# Altium integrated library Connectors - Barrel.IntLib: 4 symbols
Pins are listed as number, name and electrical type; pins without a type are passive.

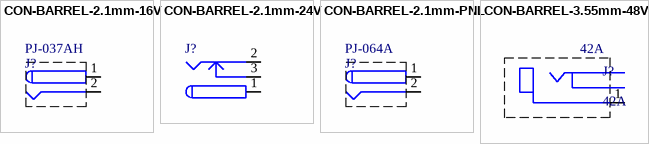
[diagram p0: symbols CON-BARREL-2.1mm-16V to CON-BARREL-3.55mm-48V]

## CON-BARREL-2.1mm-16V
designator J?, comment PJ-037AH
16V,  4A Maximum, Barrel Jack, 2.1mm I.D. 5.5mm O.D., No switch; Manufacturer: CUI Inc; Mates with (Wire housing): 2.1mm ID, 5.5mm OD Barrel connectors; Connector Body Material: Thermoplastic; Plug Diameter: 2.1mm ID, 5.5mm OD; Shielding: Unshielded; ComponentLink1Description: Datasheet; ComponentLink1URL: \\canopus\EDA\Datasheets\Interconnects\Barrel\pj-037ah.pdf; Mates with (PCB): N/A; Mounting Type: Right Angle; PackageDescription: 2.1mm inner diameter, 5.5mm outer diameter barrel connector; Pitch: N/A; Rows: -; Package Reference: 2.1mm Barrel Jack; Supplier 1: Digi-Key; Supplier Part Number 1: CP-037AH-ND; Supplier 2: Mouser; Supplier Part Number 2: 490-PJ-037AH; Contact Material: Copper; Contact Plating: Nickel; Gender: Jack; Internal Switch: No; No. of Conductors: N/A; Pins: 1; Signal Lines: -; Termination: PCB; Part Number: PJ-037AH
footprint 2.1mmBarrel-LC (2.1mm inner diameter, 5.5mm outer diameter barrel connector, Low current)
3D model pj-037ah (PCB3D Model)
pins: 1 (power), 2 (power)

## CON-BARREL-2.1mm-24V
designator J?, comment PJ-002AH  (value not drawn)
24V, 4A Max, Low Voltage Power Supply Connector; Manufacturer: CUI Inc; Mates with (Wire housing): 2.1mm I.D. x 5.5mm O.D. 9mm length Barrel plugs; Connector Body Material: Thermoplastic; Gender: Jack; Internal Switch: No; Plug Diameter: 2.1mm ID, 5.5mm OD; Shielding: Unshielded; ComponentLink1Description: Datasheet; ComponentLink1URL: \\canopus\EDA\Datasheets\Interconnects\Barrel\pj-002ah.pdf; Mates with (PCB): N/A; Mounting Type: Through Hole, Right Angle; PackageDescription: 2.1mm inner diameter, 5.5mm outer diameter barrel connector, High Current 3 pad.; Package Reference: 2.1mm-barrel-HC; Part Number: PJ-002AH; Pitch: -; Rows: -; Supplier 1: Newark; Supplier Part Number 1: 41Y7845; Supplier 2: Digi-Key; Supplier Part Number 2: CP-002AH-ND; Supplier 3: Mouser; Supplier Part Number 3: 490-PJ-002AH; Contact Material: Copper; Contact Plating: Nickel; No. of Conductors: N/A; Pins: 1; Signal Lines: -; Termination: PCB
footprint 2.1mm-barrel-HC (2.1mm inner diameter, 5.5mm outer diameter barrel connector, High Current 3 pad.)
signal-integrity model Connector
pins: 1 (power), 2 (power), 3 (power)

## CON-BARREL-2.1mm-PNL
designator J?, comment PJ-064A
24V,  5A Maximum, Barrel Jack, 2.1mm I.D. 5.5mm O.D., No switch; Manufacturer: CUI Inc; Mates with (Wire housing): 2.1mm ID, 5.5mm OD Barrel connectors; Connector Body Material: Thermoplastic; Plug Diameter: 2.1mm ID, 5.5mm OD; Shielding: Unshielded; ComponentLink1Description: Datasheet; ComponentLink1URL: \\canopus\EDA\Datasheets\Interconnects\Barrel\pj-064x.pdf; Mates with (PCB): N/A; Mounting Type: Panel; PackageDescription: 2.1mm inner diameter, 5.5mm outer diameter barrel connector, Panel Mount; Pitch: N/A; Rows: -; Package Reference: 2.1mm Barrel Jack; Supplier 1: Digi-Key; Supplier Part Number 1: CP-064A-ND; Supplier 2: Mouser; Supplier Part Number 2: 490-PJ-064A; Part Number: PJ-064A; Contact Material: Copper; Contact Plating: Nickel; Gender: Jack; Internal Switch: No; No. of Conductors: N/A; Pins: 1; Signal Lines: -; Termination: PCB
footprint 2xPADS_300mil (Pads for panel mount low voltage DC jack, 300mil x 200 mil)
3D model pj-037ah (PCB3D Model)
pins: 1 (power), 2 (power)

## CON-BARREL-3.55mm-48V
designator J?, comment 42A
48V, 0.25A, Barrel Jack, 3.55mm, 2 contacts, panel mount; Manufacturer: Switchcraft Inc.; Connector Body Material: Plastic; Signal Lines: Mono; No. of Conductors: 2; Internal Switch: Single Switch; Shielding: Unshielded; Mates with (Wire housing): 3.55mm (0.14", Tini Plug); Pitch: NA; Mounting Type: Panel; PackageDescription: 3.55mm (0.14", Tini Plug) Audio jack (Mono); Package Reference: 3.55mm (0.14", Tini Plug); Pins: 3; Gender: Jack; Plug Diameter: 3.55mm; Termination: Solder Eyelet(s); Contact Material: Brass; Contact Plating: Tin; Supplier 1: Allied; Supplier Part Number 1: 70214526; Supplier 2: Mouser; Supplier Part Number 2: 502-42A; Supplier 3: Digi-Key; Supplier Part Number 3: SC1816-ND; Mates with (PCB): N/A; Rows: -; Part Number: 42A
footprint 3.5mm Jack-7mm (7mm thru hole pad for 3.55mm Jack)
pins: 1 (power)